# Altium integrated library Renesas Microprocessor SuperH.IntLib: 433 symbols (part 14 of 62)
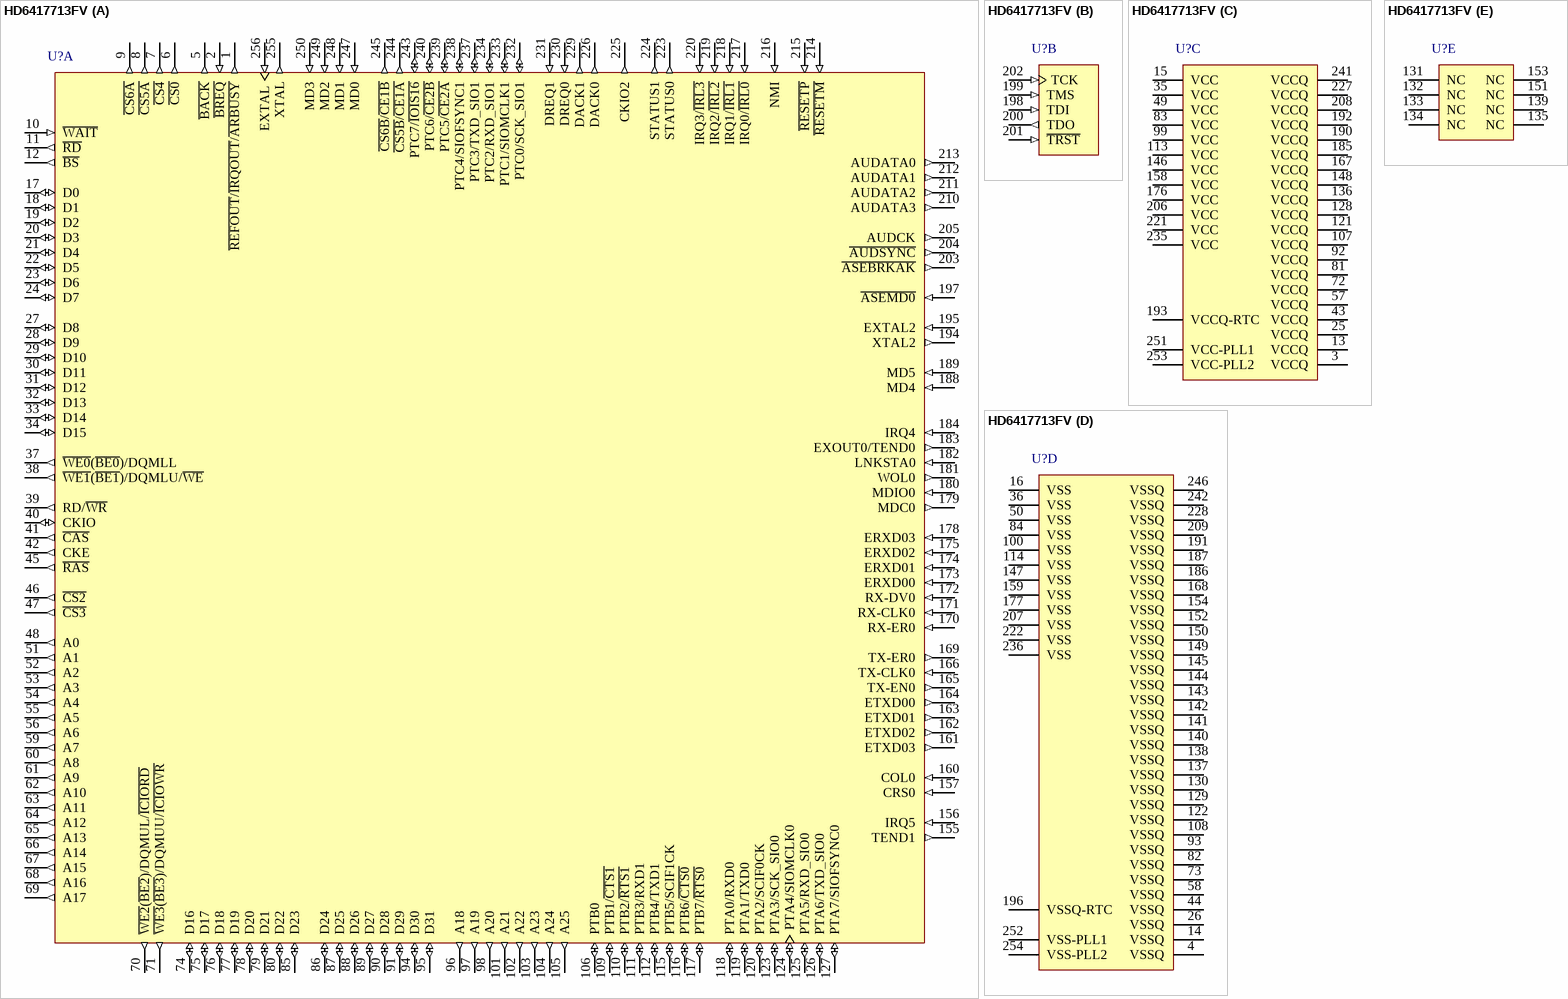
[diagram p289: symbol HD6417713FV]

## HD6417713FV
designator U?
32-Bit RISC Microcomputer, SH-Ether Series, SH3-DSP core, 200MHz, 16K RAM, 256-pin HQFP, (Pb-Free) -20 to 75°C; Published: 28-Aug-2009; DatasheetVersion: Rev.1.50, Aug-2006; PackageVersion: Sep-2005; PackageReference: PRQP0256LA-B; Publisher: Altium Limited; PackageDescription: 256-Pin Plastic Quad Flat Pack, 28 x 28 x 3.2 mm Body, 0.4 mm Pitch; Supplier 1: Digi-Key; Supplier Part Number 1: HD6417713FV-ND; Code_JEITA: P-HQFP256-28x28-0.40; ComponentLink1Description: Manufacturer Link; ComponentLink1URL: http://www.renesas.com/fmwk.jsp?cnt=sh7710_root.jsp&fp=/products/mpumcu/superh_family/shether_series/sh7710_group/; ComponentLink2Description: Datasheet; ComponentLink2URL: http://documentation.renesas.com/eng/products/mpumcu/rej09b0288_sh7713hm.pdf; ComponentLink3Description: Packaging Specification; ComponentLink3URL: http://sg.renesas.com/media/products/common_info/package/pdf/ic/code/prqp0256la_b.pdf
footprint PRQP0256LA-B_N (Shrink QFP, 256-Leads, Body 28x28mm, Pitch 0.4mm, IPC Medium Density)
footprint PRQP0256LA-B_L (Shrink QFP, 256-Leads, Body 28x28mm, Pitch 0.4mm, IPC High Density)
footprint PRQP0256LA-B_M (Shrink QFP, 256-Leads, Body 28x28mm, Pitch 0.4mm, IPC Low Density)
part A pins: 1 ~{REFOUT}/~{IRQOUT}/~{ARBUSY} (out) "Bus release request output", 2 ~{BREQ} (in) "Bus request", 5 ~{BACK} (out) "Bus acknowledge", 6 ~{CS0} (out) "Chip select 0", 7 ~{CS4} (out) "Chip select 4", 8 ~{CS5A} (out) "Chip select 5 A", 9 ~{CS6A} (out) "Chip select 6 A", 10 ~{WAIT} (in) "Hardware wait request", 11 ~{RD} (out) "Read strobe", 12 ~{BS} (out) "Bus cycle start signal", 17 D0 (io) "Data bus", 18 D1 (io) "Data bus", 19 D2 (io) "Data bus", 20 D3 (io) "Data bus", 21 D4 (io) "Data bus", 22 D5 (io) "Data bus", 23 D6 (io) "Data bus", 24 D7 (io) "Data bus", 27 D8 (io) "Data bus", 28 D9 (io) "Data bus", 29 D10 (io) "Data bus", 30 D11 (io) "Data bus", 31 D12 (io) "Data bus", 32 D13 (io) "Data bus", 33 D14 (io) "Data bus", 34 D15 (io) "Data bus", 37 ~{WE0}(~{BE0})/DQMLL (out) "D7 to D0-select signal/DQM (SDRAM)", 38 ~{WE1}(~{BE1})/DQMLU/~{WE} (out) "D15 to D8-select signal/DQM (SDRAM)/PCMCIA write cycle strobe", 39 RD/~{WR} (out) "Read/write", 40 CKIO (io) "System clock I/O", 41 ~{CAS} (out) "CAS (SDRAM)", 42 CKE (out) "CK enable (SDRAM)", 45 ~{RAS} (out) "RAS (SDRAM)", 46 ~{CS2} (out) "Chip select 2", 47 ~{CS3} (out) "Chip select 3", 48 A0 (out) "Address bus", 51 A1 (out) "Address bus", 52 A2 (out) "Address bus", 53 A3 (out) "Address bus", 54 A4 (out) "Address bus", 55 A5 (out) "Address bus", 56 A6 (out) "Address bus", 59 A7 (out) "Address bus", 60 A8 (out) "Address bus", 61 A9 (out) "Address bus", 62 A10 (out) "Address bus", 63 A11 (out) "Address bus", 64 A12 (out) "Address bus", 65 A13 (out) "Address bus", 66 A14 (out) "Address bus", 67 A15 (out) "Address bus", 68 A16 (out) "Address bus", 69 A17 (out) "Address bus", 70 ~{WE2}(~{BE2})/DQMUL/~{ICIORD} (out) "D23 to D16-select signal/DQM (SDRAM)/PCMCIA I/O read", 71 ~{WE3}(~{BE3})/DQMUU/~{ICIOWR} (out) "D31 to D24-select signal/DQM (SDRAM)/PCMCIA I/O write", 74 D16 (io) "Data bus", 75 D17 (io) "Data bus", 76 D18 (io) "Data bus", 77 D19 (io) "Data bus", 78 D20 (io) "Data bus", 79 D21 (io) "Data bus", 80 D22 (io) "Data bus", 85 D23 (io) "Data bus", 86 D24 (io) "Data bus", 87 D25 (io) "Data bus", 88 D26 (io) "Data bus", 89 D27 (io) "Data bus", 90 D28 (io) "Data bus", 91 D29 (io) "Data bus", 94 D30 (io) "Data bus", 95 D31 (io) "Data bus", 96 A18 (out) "Address bus", 97 A19 (out) "Address bus", 98 A20 (out) "Address bus", 101 A21 (out) "Address bus", 102 A22 (out) "Address bus", 103 A23 (out) "Address bus", 104 A24 (out) "Address bus", 105 A25 (out) "Address bus", 106 PTB0 (io) "I/O port B", 109 PTB1/~{CTS1} (io) "I/O port B/SCIF1 transmit clear", 110 PTB2/~{RTS1} (io) "I/O port B/SCIF1 transmit request", 111 PTB3/RXD1 (io) "I/O port B/SCIF1 receive data", 112 PTB4/TXD1 (io) "I/O port B/SCIF1 transmit data", 115 PTB5/SCIF1CK (io) "I/O port B/SCIF1 serial clock", 116 PTB6/~{CTS0} (io) "I/O port B/SCIF0 transmit clear", 117 PTB7/~{RTS0} (io) "I/O port B/SCIF0 transmit request", 118 PTA0/RXD0 (io) "I/O port A/SCIF0 receive data", 119 PTA1/TXD0 (io) "I/O port A/SCIF0 transmit data", 120 PTA2/SCIF0CK (io) "I/O port A/SCIF0 serial clock", 123 PTA3/SCK_SIO0 (io) "I/O port A/SIOF0 communication clock", 124 PTA4/SIOMCLK0 (io) "I/O port A/SIOF0 clock input", 125 PTA5/RXD_SIO0 (io) "I/O port A/SIOF0 receive data", 126 PTA6/TXD_SIO0 (io) "I/O port A/SIOF0 transmit data", 127 PTA7/SIOFSYNC0 (io) "I/O port A/SIOF0 frame sync", 155 TEND1 (out) "DMA transfer end notification 1", 156 IRQ5 (in) "External interrupt request", 157 CRS0 (in) "MAC carrier detection", 160 COL0 (in) "MAC collision detection", 161 ETXD03 (out) "MAC transmit data 3", 162 ETXD02 (out) "MAC transmit data 2", 163 ETXD01 (out) "MAC transmit data 1", 164 ETXD00 (out) "MAC transmit data 0", 165 TX-EN0 (out) "MAC transmit enable", 166 TX-CLK0 (in) "MAC transmit clock", 169 TX-ER0 (out) "MAC transmit error", 170 RX-ER0 (in) "MAC receive error", 171 RX-CLK0 (in) "MAC receive clock", 172 RX-DV0 (in) "MAC receive data valid", 173 ERXD00 (in) "MAC receive data 0", 174 ERXD01 (in) "MAC receive data 1", 175 ERXD02 (in) "MAC receive data 2", 178 ERXD03 (in) "MAC receive data 3", 179 MDC0 (out) "MAC management data clock", 180 MDIO0 (in) "MAC management data I/O", 181 WOL0 (out) "MAC Wake-On-LAN", 182 LNKSTA0 (in) "MAC link status", 183 EXOUT0/TEND0 (out) "MAC general-purpose external output/DMA transfer end notification 0", 184 IRQ4 (in) "External interrupt request", 188 MD4 (in) "Specifies area 0 bus width", 189 MD5 (in) "Endian select", 194 XTAL2 (out) "On-chip RTC crystal oscillator pin", 195 EXTAL2 (in) "On-chip RTC crystal oscillator pin", 197 ~{ASEMD0} (in) "ASE mode", 203 ~{ASEBRKAK} (out) "ASE break acknowledge", 204 ~{AUDSYNC} (out) "AUD synchronous", 205 AUDCK (out) "AUD clock", 210 AUDATA3 (out) "AUD data", 211 AUDATA2 (out) "AUD data", 212 AUDATA1 (out) "AUD data", 213 AUDATA0 (out) "AUD data", 214 ~{RESETM} (in) "Manual reset request", 215 ~{RESETP} (in) "Power-on reset request", 216 NMI (in) "Non-maskable interrupt request", 217 IRQ0/~{IRL0} (in) "External interrupt request", 218 IRQ1/~{IRL1} (in) "External interrupt request", 219 IRQ2/~{IRL2} (in) "External interrupt request", 220 IRQ3/~{IRL3} (in) "External interrupt request", 223 STATUS0 (out) "Processor status", 224 STATUS1 (out) "Processor status", 225 CKIO2 (out) "System clock output", 226 DACK0 (out) "DMA acknowledge 0", 229 DACK1 (out) "DMA acknowledge 1", 230 DREQ0 (in) "DMA request 0", 231 DREQ1 (in) "DMA request 1", 232 PTC0/SCK_SIO1 (io) "I/O port C/SIOF1 communication clock", 233 PTC1/SIOMCLK1 (io) "I/O port C/SIOF1 clock input", 234 PTC2/RXD_SIO1 (io) "I/O port C/SIOF1 receive data", 237 PTC3/TXD_SIO1 (io) "I/O port C/SIOF1 transmit data", 238 PTC4/SIOFSYNC1 (io) "I/O port C/SIOF1 frame sync", 239 PTC5/~{CE2A} (io) "I/O port C/area 5 PCMCIA card enable", 240 PTC6/~{CE2B} (io) "I/O port C/area 6 PCMCIA card enable", 243 PTC7/~{IOIS16} (io) "I/O port C/PCMCIA 16-bit I/O select", 244 ~{CS5B}/~{CE1A} (out) "Chip select 5B/area 5 PCMCIA card enable", 245 ~{CS6B}/~{CE1B} (out) "Chip select 6B/area 6 PCMCIA card enable", 247 MD0 (in) "Clock mode select", 248 MD1 (in) "Clock mode select", 249 MD2 (in) "Clock mode select", 250 MD3 (in) "Area 0 bus width", 255 XTAL (out) "Clock oscillator pin", 256 EXTAL (in) "External clock/crystal oscillator pin"
part B pins: 198 TDI (in) "Test data input", 199 TMS (in) "Test mode select", 200 TDO (out) "Test data output", 201 ~{TRST} (in) "Test reset", 202 TCK (in) "Test clock"
part C pins: 3 VCCQ (power) "I/O power supply (3.3V)", 13 VCCQ (power) "I/O power supply (3.3V)", 15 VCC (power) "Internal power supply (1.5V)", 25 VCCQ (power) "I/O power supply (3.3V)", 35 VCC (power) "Internal power supply (1.5V)", 43 VCCQ (power) "I/O power supply (3.3V)", 49 VCC (power) "Internal power supply (1.5V)", 57 VCCQ (power) "I/O power supply (3.3V)", 72 VCCQ (power) "I/O power supply (3.3V)", 81 VCCQ (power) "I/O power supply (3.3V)", 83 VCC (power) "Internal power supply (1.5V)", 92 VCCQ (power) "I/O power supply (3.3V)", 99 VCC (power) "Internal power supply (1.5V)", 107 VCCQ (power) "I/O power supply (3.3V)", 113 VCC (power) "Internal power supply (1.5V)", 121 VCCQ (power) "I/O power supply (3.3V)", 128 VCCQ (power) "I/O power supply (3.3V)", 136 VCCQ (power) "I/O power supply (3.3V)", 146 VCC (power) "Internal power supply (1.5V)", 148 VCCQ (power) "I/O power supply (3.3V)", 158 VCC (power) "Internal power supply (1.5V)", 167 VCCQ (power) "I/O power supply (3.3V)", 176 VCC (power) "Internal power supply (1.5V)", 185 VCCQ (power) "I/O power supply (3.3V)", 190 VCCQ (power) "I/O power supply (3.3V)", 192 VCCQ (power) "I/O power supply (3.3V)", 193 VCCQ-RTC (power) "RTC oscillator power supply (3.3V)", 206 VCC (power) "Internal power supply (1.5V)", 208 VCCQ (power) "I/O power supply (3.3V)", 221 VCC (power) "Internal power supply (1.5V)", 227 VCCQ (power) "I/O power supply (3.3V)", 235 VCC (power) "Internal power supply (1.5V)", 241 VCCQ (power) "I/O power supply (3.3V)", 251 VCC-PLL1 (power) "PLL1 power supply (1.5V)", 253 VCC-PLL2 (power) "PLL2 power supply (1.5V)"
part D pins: 4 VSSQ (power) "I/O power supply (0V)", 14 VSSQ (power) "I/O power supply (0V)", 16 VSS (power) "Internal power supply (0V)", 26 VSSQ (power) "I/O power supply (0V)", 36 VSS (power) "Internal power supply (0V)", 44 VSSQ (power) "I/O power supply (0V)", 50 VSS (power) "Internal power supply (0V)", 58 VSSQ (power) "I/O power supply (0V)", 73 VSSQ (power) "I/O power supply (0V)", 82 VSSQ (power) "I/O power supply (0V)", 84 VSS (power) "Internal power supply (0V)", 93 VSSQ (power) "I/O power supply (0V)", 100 VSS (power) "Internal power supply (0V)", 108 VSSQ (power) "I/O power supply (0V)", 114 VSS (power) "Internal power supply (0V)", 122 VSSQ (power) "I/O power supply (0V)", 129 VSSQ (power) "I/O power supply (0V)", 130 VSSQ (power) "I/O power supply (0V)", 137 VSSQ (power) "I/O power supply (0V)", 138 VSSQ (power) "I/O power supply (0V)", 140 VSSQ (power) "I/O power supply (0V)", 141 VSSQ (power) "I/O power supply (0V)", 142 VSSQ (power) "I/O power supply (0V)", 143 VSSQ (power) "I/O power supply (0V)", 144 VSSQ (power) "I/O power supply (0V)", 145 VSSQ (power) "I/O power supply (0V)", 147 VSS (power) "Internal power supply (0V)", 149 VSSQ (power) "I/O power supply (0V)", 150 VSSQ (power) "I/O power supply (0V)", 152 VSSQ (power) "I/O power supply (0V)", 154 VSSQ (power) "I/O power supply (0V)", 159 VSS (power) "Internal power supply (0V)", 168 VSSQ (power) "I/O power supply (0V)", 177 VSS (power) "Internal power supply (0V)", 186 VSSQ (power) "I/O power supply (0V)", 187 VSSQ (power) "I/O power supply (0V)", 191 VSSQ (power) "I/O power supply (0V)", 196 VSSQ-RTC (power) "RTC oscillator power supply (0V)", 207 VSS (power) "Internal power supply (0V)", 209 VSSQ (power) "I/O power supply (0V)", 222 VSS (power) "Internal power supply (0V)", 228 VSSQ (power) "I/O power supply (0V)", 236 VSS (power) "Internal power supply (0V)", 242 VSSQ (power) "I/O power supply (0V)", 246 VSSQ (power) "I/O power supply (0V)", 252 VSS-PLL1 (power) "PLL1 power supply (0V)", 254 VSS-PLL2 (power) "PLL2 power supply (0V)"
part E pins: 131 NC "Not Connected", 132 NC "Not Connected", 133 NC "Not Connected", 134 NC "Not Connected", 135 NC "Not Connected", 139 NC "Not Connected", 151 NC "Not Connected", 153 NC "Not Connected"

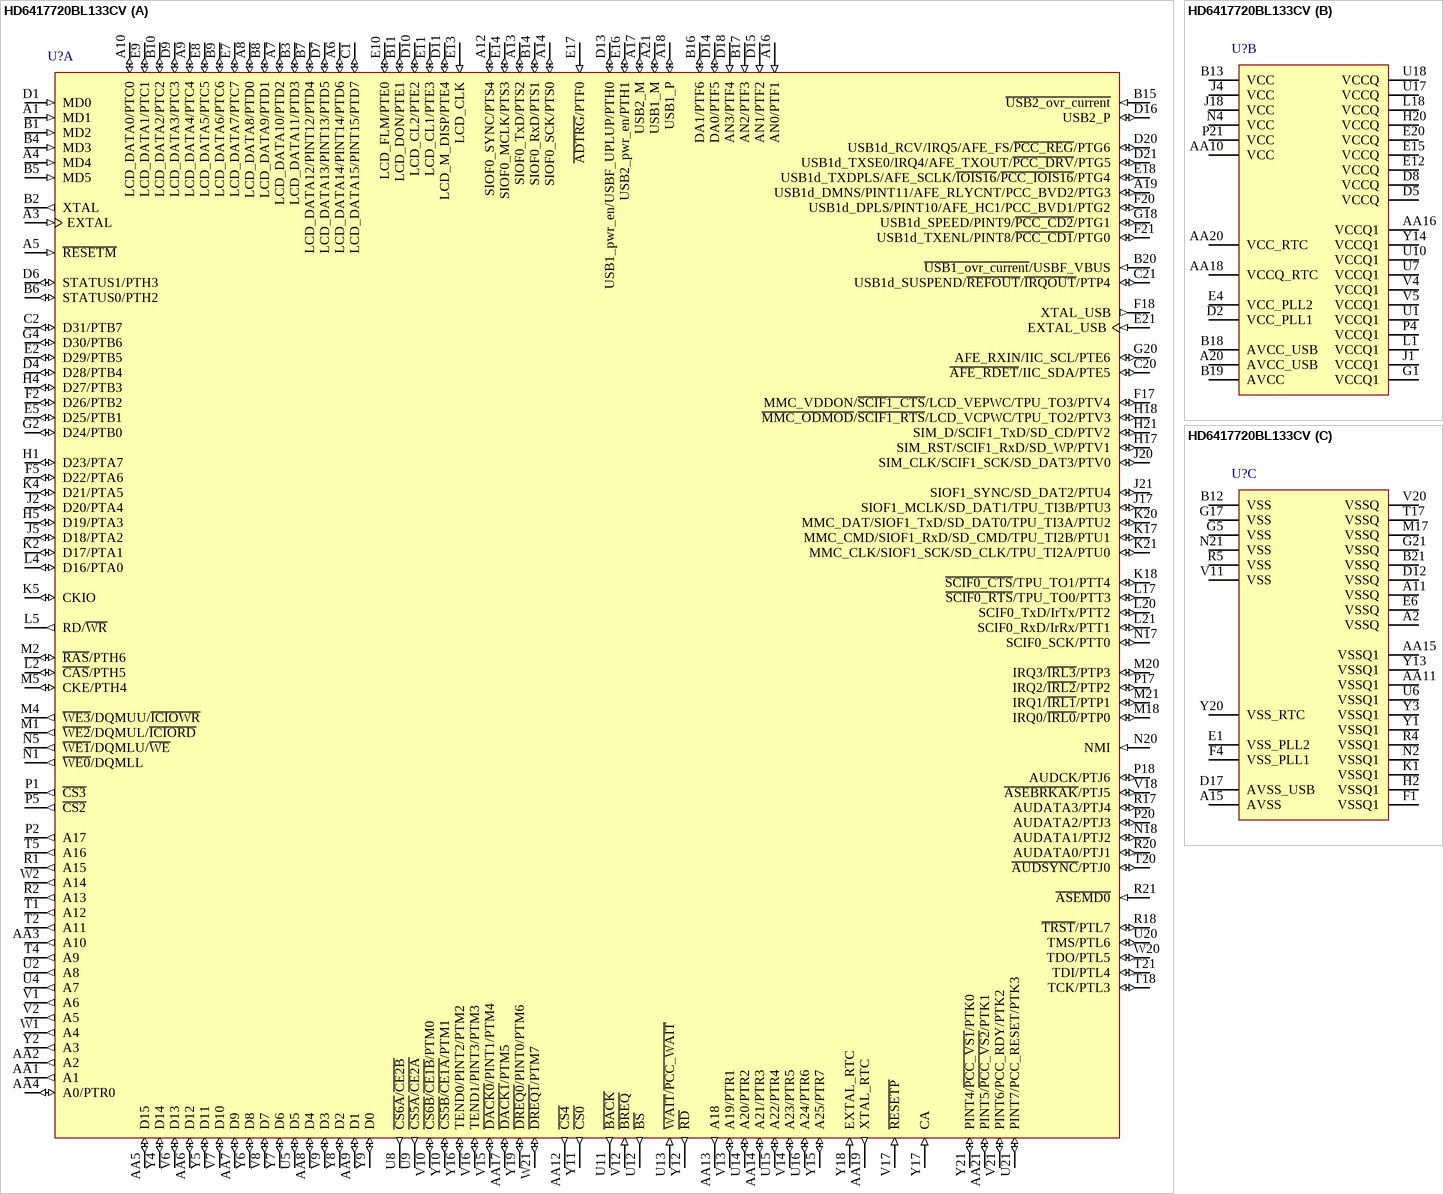
[diagram p51: symbol HD6417720BL133CV]

## HD6417720BL133CV
designator U?
32-Bit RISC Microcomputer, SH7700 Series, SH3-DSP core, 133MHz, 16K RAM, 11x11mm 256-pin CSP, -20 to 75°C; Published: 28-Aug-2009; DatasheetVersion: Rev.3.00, Jan-2008; PackageVersion: Sep-2008; PackageReference: PLBG0256KA-A; Publisher: Altium Limited; PackageDescription: 256-Ball Plastic Low Profile Fine-Pitch BGA, 11 x 11 mm Body, 0.5 mm Pitch; Supplier 1: Digi-Key; Supplier Part Number 1: HD6417720BL133CV-ND; Code_JEITA: P-LFBGA256-11x11-0.50; ComponentLink1Description: Manufacturer Link; ComponentLink1URL: http://www.renesas.com/fmwk.jsp?cnt=sh7720_root.jsp&fp=/products/mpumcu/superh_family/sh7700_series/sh7720_group/; ComponentLink2Description: Datasheet; ComponentLink2URL: http://documentation.renesas.com/eng/products/mpumcu/rej09b0033_sh7720.pdf; ComponentLink3Description: Packaging Specification; ComponentLink3URL: http://sg.renesas.com/media/products/common_info/package/pdf/ic/code/plbg0256ka_a.pdf
footprint PLBG0256KA-A (BGA, 256-Leads, Body 11x11mm, Pitch 0.5mm)
part A pins: A1 MD1 (in) "Clock mode setting", A3 EXTAL (in) "External clock", A4 MD4 (in) "Bus width setting", A5 ~{RESETM} (in) "Manual reset", A6 LCD_DATA14/PINT14/PTD6 (io) "LCD data/port interrupt/general-purpose port", A7 LCD_DATA10/PTD2 (io) "LCD data/general-purpose port", A8 LCD_DATA8/PTD0 (io) "LCD data/general-purpose port", A9 LCD_DATA4/PTC4 (io) "LCD data/general-purpose port", A10 LCD_DATA0/PTC0 (io) "LCD data/general-purpose port", A12 SIOF0_SYNC/PTS4 (io) "SIOF frame sync/general-purpose port", A13 SIOF0_TxD/PTS2 (io) "SIOF transmit data/general-purpose port", A14 SIOF0_SCK/PTS0 (io) "SIOF serial clock/general-purpose port", A16 AN0/PTF1 (in) "ADC analog input/general-purpose port", A17 USB2_M (io) "USB D-port 2", A18 USB1_P (io) "USB D+port 1", A19 USB1d_DMNS/PINT11/AFE_RLYCNT/PCC_BVD2/PTG3 (io) "D- signal input/port interrupt/AFE on-hook control/PCC buttery detection 2/general-purpose port", A21 USB1_M (io) "USB D-port 1", AA1 A1 (out) "Address bus", AA2 A2 (out) "Address bus", AA3 A10 (out) "Address bus", AA4 A0/PTR0 (io) "Address bus/general-purpose port", AA5 D15 (io) "Data bus", AA6 D12 (io) "Data bus", AA7 D9 (io) "Data bus", AA8 D4 (io) "Data bus", AA9 D1 (io) "Data bus", AA12 ~{CS4} (out) "Chip select", AA13 A18 (out) "Address bus", AA14 A21/PTR3 (io) "Address bus/general-purpose port", AA17 ~{DACK1}/PTM5 (io) "DMA transfer request reception/general-purpose port", AA19 XTAL_RTC (out) "RTC crystal", AA21 PINT5/~{PCC_VS2}/PTK1 (io) "Port interrupt/PCC voltage detection 2/general-purpose port", B1 MD2 (in) "Clock mode setting", B2 XTAL (out) "Crystal", B3 LCD_DATA11/PTD3 (io) "LCD data/general-purpose port", B4 MD3 (in) "Bus width setting", B5 MD5 (in) "Endian setting", B6 STATUS0/PTH2 (io) "Status output/general-purpose port", B7 LCD_DATA12/PINT12/PTD4 (io) "LCD data/port interrupt/general-purpose port", B8 LCD_DATA9/PTD1 (io) "LCD data/general-purpose port", B9 LCD_DATA6/PTC6 (io) "LCD data/general-purpose port", B10 LCD_DATA2/PTC2 (io) "LCD data/general-purpose port", B11 LCD_DON/PTE1 (io) "LCD display on signal/general-purpose port", B14 SIOF0_RxD/PTS1 (io) "SIOF receive data/general-purpose port", B15 ~{USB2_ovr_current} (in) "USB2 port overcurrent", B16 DA1/PTF6 (io) "DAC analog output/general-purpose port", B17 AN2/PTF3 (in) "ADC analog input/general-purpose port", B20 ~{USB1_ovr_current}/USBF_VBUS (in) "USB1 overcurrent/monitor", C1 LCD_DATA15/PINT15/PTD7 (io) "LCD data/port interrupt/general-purpose port", C2 D31/PTB7 (io) "Data bus/general-purpose port", C20 ~{AFE_RDET}/IIC_SDA/PTE5 (io) "AFE ringing/IIC data I/O /general-purpose port", C21 USB1d_SUSPEND/~{REFOUT}/~{IRQOUT}/PTP4 (io) "Suspend state/bus request (refresh)/bus request (interrupt)/general-purpose port", D1 MD0 (in) "Clock mode setting", D4 D28/PTB4 (io) "Data bus/general-purpose port", D6 STATUS1/PTH3 (io) "Status output/general-purpose port", D7 LCD_DATA13/PINT13/PTD5 (io) "LCD data/port interrupt/general-purpose port", D9 LCD_DATA3/PTC3 (io) "LCD data/general-purpose port", D10 LCD_CL2/PTE2 (io) "LCD shift clock 2/general-purpose port", D11 LCD_M_DISP/PTE4 (io) "LCD current-alternating signal/general-purpose port", D13 USB1_pwr_en/USBF_UPLUP/PTH0 (io) "USB1 power-enable/pull-up control/general-purpose port", D14 DA0/PTF5 (io) "DAC analog output/general-purpose port", D15 AN1/PTF2 (in) "ADC analog input/general-purpose port", D16 USB2_P (io) "USB D+port 2", D18 AN3/PTF4 (in) "ADC analog input/general-purpose port", D20 USB1d_RCV/IRQ5/AFE_FS/~{PCC_REG}/PTG6 (io) "Receive data/interrupt/area indicate signal/AFE frame synchronization/PCC space indication/general-purpose port", D21 USB1d_TXSE0/IRQ4/AFE_TXOUT/~{PCC_DRV}/PTG5 (io) "SE0 state/interrupt/AFE serial transmission/PCC buffer control/general-purpose port", E2 D29/PTB5 (io) "Data bus/general-purpose port", E5 D25/PTB1 (io) "Data bus/general-purpose port", E7 LCD_DATA7/PTC7 (io) "LCD data/general-purpose port", E8 LCD_DATA5/PTC5 (io) "LCD data/general-purpose port", E9 LCD_DATA1/PTC1 (io) "LCD data/general-purpose port", E10 LCD_FLM/PTE0 (io) "LCD line marker/general-purpose port", E11 LCD_CL1/PTE3 (io) "LCD shift clock 1/general-purpose port", E13 LCD_CLK (in) "LCD clock source", E14 SIOF0_MCLK/PTS3 (io) "SIOF master clock/general-purpose port", E16 USB2_pwr_en/PTH1 (io) "USB2 power-enable/general-purpose port", E17 ~{ADTRG}/PTF0 (in) "ADC external trigger/general-purpose port", E18 USB1d_TXDPLS/AFE_SCLK/~{IOIS16}/~{PCC_IOIS16}/PTG4 (io) "D+transmit output/AFE shift clock/16-bit IO/PCCI 6-bit IO/general-purpose port", E21 EXTAL_USB (in) "USB external clock", F2 D26/PTB2 (io) "Data bus/general-purpose port", F5 D22/PTA6 (io) "Data bus/general-purpose port", F17 MMC_VDDON/~{SCIF1_CTS}/LCD_VEPWC/TPU_TO3/PTV4 (io) "MMC card power supply control/SCIF transmit enable/LCD power supply control/TPU compare-match output/general-purpose port", F18 XTAL_USB (out) "USB crystal", F20 USB1d_DPLS/PINT10/AFE_HC1/PCC_BVD1/PTG2 (io) "D+ transmit input/port interrupt/AFE hardware control/PCC battery detection 1/general-purpose port", F21 USB1d_TXENL/PINT8/~{PCC_CD1}/PTG0 (io) "Driver output enable/port interrupt/PCC card detection 1/general-purpose port", G2 D24/PTB0 (io) "Data bus/general-purpose port", G4 D30/PTB6 (io) "Data bus/general-purpose port", G18 USB1d_SPEED/PINT9/~{PCC_CD2}/PTG1 (io) "Speed control/port interrupt/PCC card detection 2/general-purpose port", G20 AFE_RXIN/IIC_SCL/PTE6 (io) "AFE serial receive/IIC clock/general-purpose port", H1 D23/PTA7 (io) "Data bus/general-purpose port", H4 D27/PTB3 (io) "Data bus/general-purpose port", H5 D19/PTA3 (io) "Data bus/general-purpose port", H17 SIM_RST/SCIF1_RxD/SD_WP/PTV1 (io) "SIM reset/SCIF receive data/SD write protect/general-purpose port", H18 ~{MMC_ODMOD}/~{SCIF1_RTS}/LCD_VCPWC/TPU_TO2/PTV3 (io) "MMC open drain control/SCIF transmit request/LCD power supply control/TPU compare-match output/general-purpose port", H21 SIM_D/SCIF1_TxD/SD_CD/PTV2 (io) "SIM data/SCIF transmit data/SD card detection/general-purpose port", J2 D20/PTA4 (io) "Data bus/general-purpose port", J5 D18/PTA2 (io) "Data bus/general-purpose port", J17 SIOF1_MCLK/SD_DAT1/TPU_TI3B/PTU3 (io) "SIOF master clock/SD data/TPU clock input/general-purpose port", J20 SIM_CLK/SCIF1_SCK/SD_DAT3/PTV0 (io) "SIM clock/SCIF serial clock/SD data/general-purpose port", J21 SIOF1_SYNC/SD_DAT2/PTU4 (io) "SIOF frame sync/SD data/general-purpose port", K2 D17/PTA1 (io) "Data bus/general-purpose port", K4 D21/PTA5 (io) "Data bus/general-purpose port", K5 CKIO (io) "System clock", K17 MMC_CMD/SIOF1_RxD/SD_CMD/TPU_TI2B/PTU1 (io) "MMC command/SIOF receive data/SD command/TPU clock input/general-purpose port", K18 ~{SCIF0_CTS}/TPU_TO1/PTT4 (io) "SCIF transmit enable/TPU compare-match output/general-purpose port", K20 MMC_DAT/SIOF1_TxD/SD_DAT0/TPU_TI3A/PTU2 (io) "MMC data/SIOF transmit data/SD data/TPU clock input/general-purpose port", K21 MMC_CLK/SIOF1_SCK/SD_CLK/TPU_TI2A/PTU0 (io) "MMC clock/SIOF serial clock/SD clock/TPU clock input/general-purpose port", L2 ~{CAS}/PTH5 (io) "Column address/general-purpose port", L4 D16/PTA0 (io) "Data bus/general-purpose port", L5 RD/~{WR} (out) "Read/write signal", L17 ~{SCIF0_RTS}/TPU_TO0/PTT3 (io) "SCIF transmit request/TPU compare-match output/general-purpose port", L20 SCIF0_TxD/IrTx/PTT2 (io) "SCIF transmit data/IrDA transmit data/general-purpose port", L21 SCIF0_RxD/IrRx/PTT1 (io) "SCIF receive data/IrDA receive data/general-purpose port", M1 ~{WE2}/DQMUL/~{ICIORD} (out) "Second-highest-byte write/DQ mask UL/IO read", M2 ~{RAS}/PTH6 (io) "Row address/general-purpose port O/IO", M4 ~{WE3}/DQMUU/~{ICIOWR} (out) "Highest-byte write/DQ mask UU/IO write", M5 CKE/PTH4 (io) "Clock enable/general-purpose port O/IO", M18 IRQ0/~{IRL0}/PTP0 (io) "Interrupt/interrupt/general-purpose port", M20 IRQ3/~{IRL3}/PTP3 (io) "Interrupt/interrupt/general-purpose port", M21 IRQ1/~{IRL1}/PTP1 (io) "Interrupt/interrupt/general-purpose port", N1 ~{WE0}/DQMLL (out) "Lowest-byte write/DQ mask LL", N5 ~{WE1}/DQMLU/~{WE} (out) "Second-lowest-byte write/DQ mask LU/write enable", N17 SCIF0_SCK/PTT0 (io) "SCIF serial clock/general-purpose port", N18 AUDATA1/PTJ2 (io) "AUD data/general-purpose port", N20 NMI (in) "NMI interrupt", P1 ~{CS3} (out) "Chip select", P2 A17 (out) "Address bus", P5 ~{CS2} (out) "Chip select", P17 IRQ2/~{IRL2}/PTP2 (io) "Interrupt/interrupt/general-purpose port", P18 AUDCK/PTJ6 (io) "AUD clock/general-purpose port", P20 AUDATA2/PTJ3 (io) "AUD data/general-purpose port", R1 A15 (out) "Address bus", R2 A13 (out) "Address bus", R17 AUDATA3/PTJ4 (io) "AUD data/general-purpose port", R18 ~{TRST}/PTL7 (io) "Test reset/general-purpose port", R20 AUDATA0/PTJ1 (io) "AUD data/general-purpose port", R21 ~{ASEMD0} (in) "ASE mode", T1 A12 (out) "Address bus", T2 A11 (out) "Address bus", T4 A9 (out) "Address bus", T5 A16 (out) "Address bus", T18 TCK/PTL3 (io) "Test clock/general-purpose port", T20 ~{AUDSYNC}/PTJ0 (io) "AUD synchronous signal/general-purpose port", T21 TDI/PTL4 (io) "Test data input/general-purpose port", U2 A8 (out) "Address bus", U4 A7 (out) "Address bus", U5 D5 (io) "Data bus", U8 ~{CS6A}/~{CE2B} (out) "Chip select/chip select", U9 ~{CS5A}/~{CE2A} (out) "Chip select/chip select", U11 ~{BACK} (out) "Bus request acknowledge", U12 ~{BS} (out) "Bus start", U13 ~{WAIT}/~{PCC_WAIT} (in) "Wait/PCC wait", U14 A20/PTR2 (io) "Address bus/general-purpose port", U15 A22/PTR4 (io) "Address bus/general-purpose port", U16 A24/PTR6 (io) "Address bus/general-purpose port", U20 TMS/PTL6 (io) "Test mode select/general-purpose port", U21 PINT7/PCC_RESET/PTK3 (io) "Port interrupt/PCC reset/general-purpose port", V1 A6 (out) "Address bus", V2 A5 (out) "Address bus", V6 D13 (io) "Data bus", V7 D10 (io) "Data bus", V8 D7 (io) "Data bus", V9 D3 (io) "Data bus", V10 ~{CS6B}/~{CE1B}/PTM0 (io) "Chip select/chip select/general-purpose port", V12 ~{BREQ} (in) "Bus request", V13 A19/PTR1 (io) "Address bus/general-purpose port", V14 A23/PTR5 (io) "Address bus/general-purpose port", V15 ~{DACK0}/PINT1/PTM4 (io) "DMA transfer request reception/port interrupt/general-purpose port", V16 TEND1/PINT3/PTM3 (io) "DMA transfer end/port interrupt/general-purpose port", V17 ~{RESETP} (in) "Power-on reset", V18 ~{ASEBRKAK}/PTJ5 (io) "ASE break mode acknowledge/general-purpose port", V21 PINT6/PCC_RDY/PTK2 (io) "Port interrupt/PCC ready/general-purpose port", W1 A4 (out) "Address bus", W2 A14 (out) "Address bus", W20 TDO/PTL5 (io) "Test data output/general-purpose port", W21 ~{DREQ1}/PTM7 (io) "DMA transfer request/general-purpose port", Y2 A3 (out) "Address bus", Y4 D14 (io) "Data bus", Y5 D11 (io) "Data bus", Y6 D8 (io) "Data bus", Y7 D6 (io) "Data bus", Y8 D2 (io) "Data bus", Y9 D0 (io) "Data bus", Y10 ~{CS5B}/~{CE1A}/PTM1 (io) "Chip select/chip select/general-purpose port", Y11 ~{CS0} (out) "Chip select", Y12 ~{RD} (out) "Read strobe", Y15 A25/PTR7 (io) "Address bus/general-purpose port", Y16 TEND0/PINT2/PTM2 (io) "DMA transfer end/port interrupt/general-purpose port", Y17 CA (in) "Chip active", Y18 EXTAL_RTC (in) "RTC external clock", Y19 ~{DREQ0}/PINT0/PTM6 (io) "DMA transfer request/port interrupt/general-purpose port", Y21 PINT4/~{PCC_VS1}/PTK0 (io) "Port interrupt/PCC voltage detection 1/general-purpose port"
part B pins: A20 AVCC_USB (power) "USB power supply (3.3V)", AA10 VCC (power) "Internal power supply (1.5V)", AA16 VCCQ1 (power) "I/O power supply (1.8/3.3V)", AA18 VCCQ_RTC (power) "RTC power supply (3.3V)", AA20 VCC_RTC (power) "RTC power supply (1.5V)", B13 VCC (power) "Internal power supply (1.5V)", B18 AVCC_USB (power) "USB power supply (3.3V)", B19 AVCC (power) "Analog power supply (3.3V)", D2 VCC_PLL1 (power) "PLL1 power supply (1.5V)", D5 VCCQ (power) "I/O power supply (3.3V)", D8 VCCQ (power) "I/O power supply (3.3V)", E4 VCC_PLL2 (power) "PLL2 power supply (1.5V)", E12 VCCQ (power) "I/O power supply (3.3V)", E15 VCCQ (power) "I/O power supply (3.3V)", E20 VCCQ (power) "I/O power supply (3.3V)", G1 VCCQ1 (power) "I/O power supply (1.8/3.3V)", H20 VCCQ (power) "I/O power supply (3.3V)", J1 VCCQ1 (power) "I/O power supply (1.8/3.3V)", J4 VCC (power) "Internal power supply (1.5V)", J18 VCC (power) "Power-supply (1.5V)", L1 VCCQ1 (power) "I/O power supply (1.8/3.3V)", L18 VCCQ (power) "I/O power supply (3.3V)", N4 VCC (power) "Power-supply (1.5V)", P4 VCCQ1 (power) "I/O power supply (1.8/3.3V)", P21 VCC (power) "Internal power supply (1.5V)", U1 VCCQ1 (power) "I/O power supply (1.8/3.3V)", U7 VCCQ1 (power) "I/O power supply (1.8/3.3V)", U10 VCCQ1 (power) "I/O power supply (1.8/3.3V)", U17 VCCQ (power) "I/O power supply (3.3V)", U18 VCCQ (power) "I/O power supply (3.3V)", V4 VCCQ1 (power) "I/O power supply (1.8/3.3V)", V5 VCCQ1 (power) "I/O power supply (1.8/3.3V)", Y14 VCCQ1 (power) "I/O power supply (1.8/3.3V)"
part C pins: A2 VSSQ (power) "I/O power supply (0V)", A11 VSSQ (power) "I/O power supply (0V)", A15 AVSS (power) "Analog power supply (0V)", AA11 VSSQ1 (power) "I/O power supply (0V)", AA15 VSSQ1 (power) "I/O power supply (0V)", B12 VSS (power) "Internal power supply (0V)", B21 VSSQ (power) "I/O power supply (0V)", D12 VSSQ (power) "I/O power supply (0V)", D17 AVSS_USB (power) "USB power supply (0V)", E1 VSS_PLL2 (power) "PLL2 power supply (0V)", E6 VSSQ (power) "I/O power supply (0V)", F1 VSSQ1 (power) "I/O power supply (0V)", F4 VSS_PLL1 (power) "PLL1 power supply (0V)", G5 VSS (power) "Power-supply (0V)", G17 VSS (power) "Internal power supply (0V)", G21 VSSQ (power) "I/O power supply (0V)", H2 VSSQ1 (power) "I/O power supply (0V)", K1 VSSQ1 (power) "I/O power supply (0V)", M17 VSSQ (power) "I/O power supply (0V)", N2 VSSQ1 (power) "I/O power supply (0V)", N21 VSS (power) "Power-supply (0V)", R4 VSSQ1 (power) "I/O power supply (0V)", R5 VSS (power) "Internal power supply (0V)", T17 VSSQ (power) "I/O power supply (0V)", U6 VSSQ1 (power) "I/O power supply (0V)", V11 VSS (power) "Internal power supply (0V)", V20 VSSQ (power) "I/O power supply (0V)", Y1 VSSQ1 (power) "I/O power supply (0V)", Y3 VSSQ1 (power) "I/O power supply (0V)", Y13 VSSQ1 (power) "I/O power supply (0V)", Y20 VSS_RTC (power) "RTC power supply (0V)"

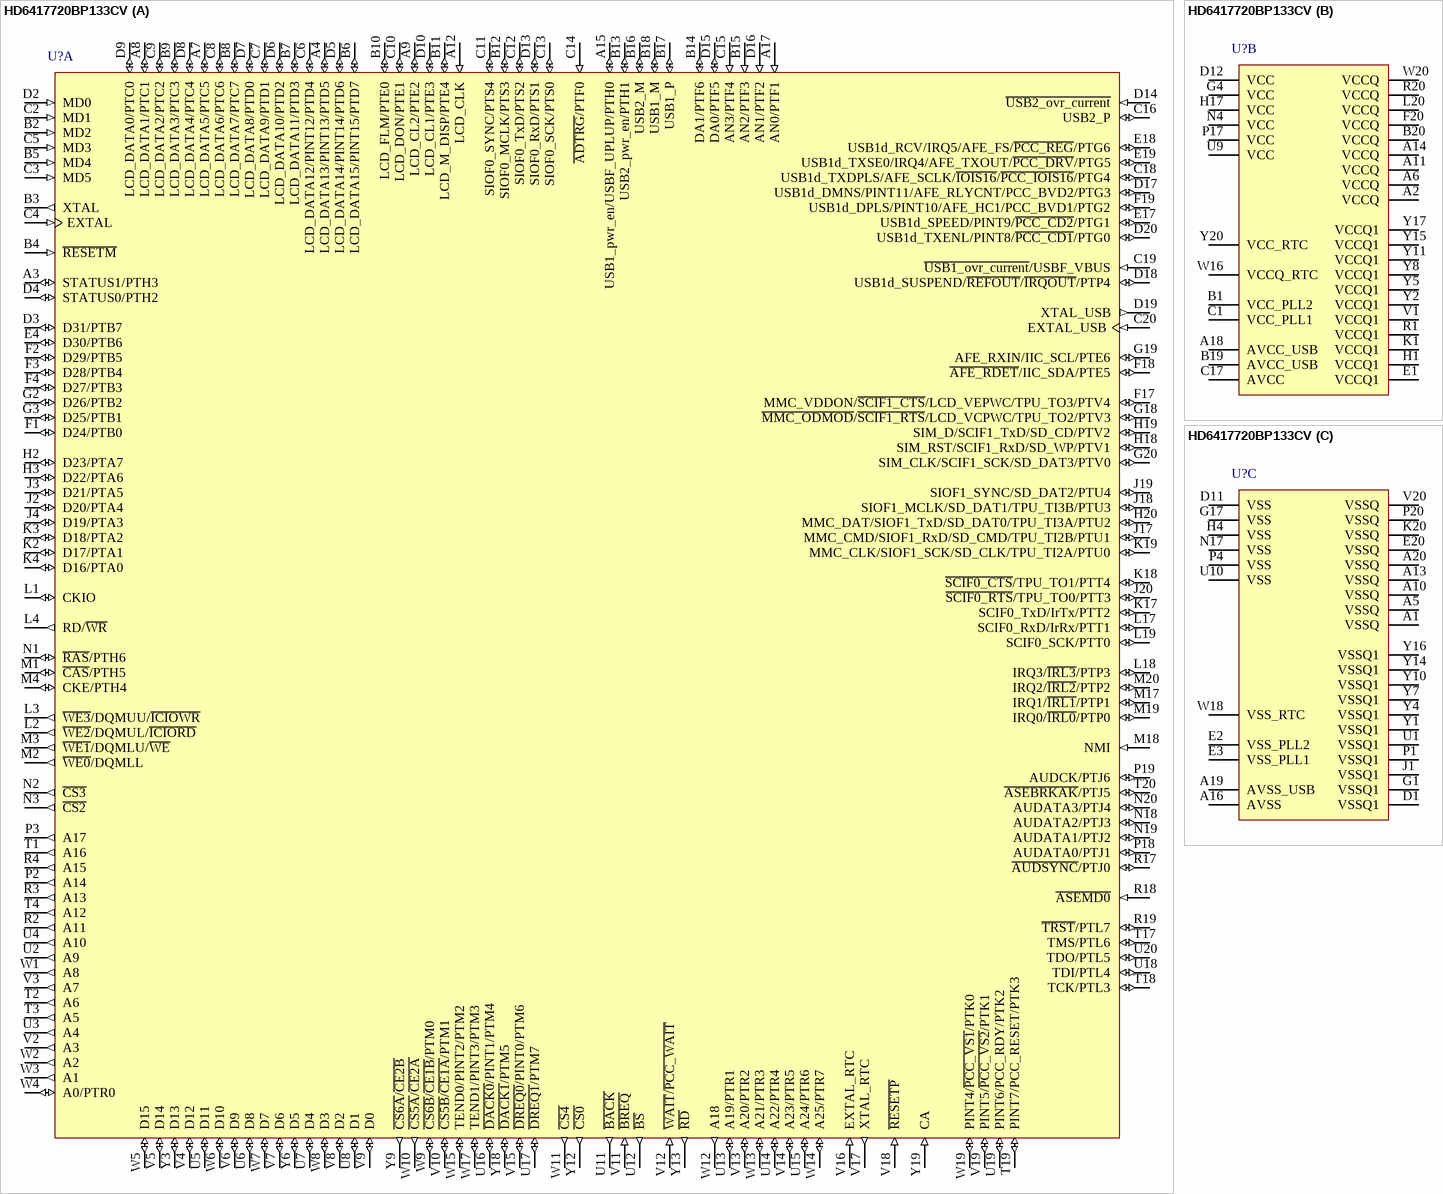
[diagram p52: symbol HD6417720BP133CV]

## HD6417720BP133CV
designator U?
32-Bit RISC Microcomputer, SH7700 Series, SH3-DSP core, 133MHz, 16K RAM, 17x17mm 256-pin CSP, -20 to 75°C; Published: 28-Aug-2009; DatasheetVersion: Rev.3.00, Jan-2008; PackageVersion: Sep-2008; PackageReference: PLBG0256GA-A; Publisher: Altium Limited; PackageDescription: 256-Ball Plastic Low Profile Fine-Pitch BGA, 17 x 17 mm Body, 0.8 mm Pitch; Supplier 1: Digi-Key; Supplier Part Number 1: HD6417720BP133CV-ND; Code_JEITA: P-LFBGA256-17x17-0.80; ComponentLink1Description: Manufacturer Link; ComponentLink1URL: http://www.renesas.com/fmwk.jsp?cnt=sh7720_root.jsp&fp=/products/mpumcu/superh_family/sh7700_series/sh7720_group/; ComponentLink2Description: Datasheet; ComponentLink2URL: http://documentation.renesas.com/eng/products/mpumcu/rej09b0033_sh7720.pdf; ComponentLink3Description: Packaging Specification; ComponentLink3URL: http://sg.renesas.com/media/products/common_info/package/pdf/ic/code/plbg0256ga_a.pdf
footprint PLBG0256GA-A (BGA, 256-Leads, Body 17x17mm, Pitch 0.8mm)
part A pins: A3 STATUS1/PTH3 (io) "Status output/general-purpose port", A4 LCD_DATA13/PINT13/PTD5 (io) "LCD data/port interrupt/general-purpose port", A7 LCD_DATA5/PTC5 (io) "LCD data/general-purpose port", A8 LCD_DATA1/PTC1 (io) "LCD data/general-purpose port", A9 LCD_CL2/PTE2 (io) "LCD shift clock 2/general-purpose port", A12 LCD_CLK (in) "LCD clock source", A15 USB1_pwr_en/USBF_UPLUP/PTH0 (io) "USB1 power-enable/pull-up control/general-purpose port", A17 AN0/PTF1 (in) "ADC analog input/general-purpose port", B2 MD2 (in) "Clock mode setting", B3 XTAL (out) "Crystal", B4 ~{RESETM} (in) "Manual reset", B5 MD4 (in) "Bus width setting", B6 LCD_DATA15/PINT15/PTD7 (io) "LCD data/port interrupt/general-purpose port", B7 LCD_DATA11/PTD3 (io) "LCD data/general-purpose port", B8 LCD_DATA7/PTC7 (io) "LCD data/general-purpose port", B9 LCD_DATA3/PTC3 (io) "LCD data/general-purpose port", B10 LCD_FLM/PTE0 (io) "LCD line marker/general-purpose port", B11 LCD_M_DISP/PTE4 (io) "LCD current-alternating signal/general-purpose port", B12 SIOF0_MCLK/PTS3 (io) "SIOF master clock/general-purpose port", B13 USB2_pwr_en/PTH1 (io) "USB2 power-enable/general-purpose port", B14 DA1/PTF6 (io) "DAC analog output/general-purpose port", B15 AN2/PTF3 (in) "ADC analog input/general-purpose port", B16 USB2_M (io) "USB D-port 2", B17 USB1_P (io) "USB D+port 1", B18 USB1_M (io) "USB D-port 1", C2 MD1 (in) "Clock mode setting", C3 MD5 (in) "Endian setting", C4 EXTAL (in) "External clock", C5 MD3 (in) "Bus width setting", C6 LCD_DATA12/PINT12/PTD4 (io) "LCD data/port interrupt/general-purpose port", C7 LCD_DATA9/PTD1 (io) "LCD data/general-purpose port", C8 LCD_DATA6/PTC6 (io) "LCD data/general-purpose port", C9 LCD_DATA2/PTC2 (io) "LCD data/general-purpose port", C10 LCD_DON/PTE1 (io) "LCD display on signal/general-purpose port", C11 SIOF0_SYNC/PTS4 (io) "SIOF frame sync/general-purpose port", C12 SIOF0_TxD/PTS2 (io) "SIOF transmit data/general-purpose port", C13 SIOF0_SCK/PTS0 (io) "SIOF serial clock/general-purpose port", C14 ~{ADTRG}/PTF0 (in) "ADC external trigger/general-purpose port", C15 AN3/PTF4 (in) "ADC analog input/general-purpose port", C16 USB2_P (io) "USB D+port 2", C18 USB1d_TXDPLS/AFE_SCLK/~{IOIS16}/~{PCC_IOIS16}/PTG4 (io) "D+transmit output/AFE shift clock/16-bit IO/PCCI 6-bit IO/general-purpose port", C19 ~{USB1_ovr_current}/USBF_VBUS (in) "USB1 overcurrent/monitor", C20 EXTAL_USB (in) "USB external clock", D2 MD0 (in) "Clock mode setting", D3 D31/PTB7 (io) "Data bus/general-purpose port", D4 STATUS0/PTH2 (io) "Status output/general-purpose port", D5 LCD_DATA14/PINT14/PTD6 (io) "LCD data/port interrupt/general-purpose port", D6 LCD_DATA10/PTD2 (io) "LCD data/general-purpose port", D7 LCD_DATA8/PTD0 (io) "LCD data/general-purpose port", D8 LCD_DATA4/PTC4 (io) "LCD data/general-purpose port", D9 LCD_DATA0/PTC0 (io) "LCD data/general-purpose port", D10 LCD_CL1/PTE3 (io) "LCD shift clock 1/general-purpose port", D13 SIOF0_RxD/PTS1 (io) "SIOF receive data/general-purpose port", D14 ~{USB2_ovr_current} (in) "USB2 port overcurrent", D15 DA0/PTF5 (io) "DAC analog output/general-purpose port", D16 AN1/PTF2 (in) "ADC analog input/general-purpose port", D17 USB1d_DMNS/PINT11/AFE_RLYCNT/PCC_BVD2/PTG3 (io) "D- signal input/port interrupt/AFE on-hook control/PCC buttery detection 2/general-purpose port", D18 USB1d_SUSPEND/~{REFOUT}/~{IRQOUT}/PTP4 (io) "Suspend state/bus request (refresh)/bus request (interrupt)/general-purpose port", D19 XTAL_USB (out) "USB crystal", D20 USB1d_TXENL/PINT8/~{PCC_CD1}/PTG0 (io) "Driver output enable/port interrupt/PCC card detection 1/general-purpose port", E4 D30/PTB6 (io) "Data bus/general-purpose port", E17 USB1d_SPEED/PINT9/~{PCC_CD2}/PTG1 (io) "Speed control/port interrupt/PCC card detection 2/general-purpose port", E18 USB1d_RCV/IRQ5/AFE_FS/~{PCC_REG}/PTG6 (io) "Receive data/interrupt/area indicate signal/AFE frame synchronization/PCC space indication/general-purpose port", E19 USB1d_TXSE0/IRQ4/AFE_TXOUT/~{PCC_DRV}/PTG5 (io) "SE0 state/interrupt/AFE serial transmission/PCC buffer control/general-purpose port", F1 D24/PTB0 (io) "Data bus/general-purpose port", F2 D29/PTB5 (io) "Data bus/general-purpose port", F3 D28/PTB4 (io) "Data bus/general-purpose port", F4 D27/PTB3 (io) "Data bus/general-purpose port", F17 MMC_VDDON/~{SCIF1_CTS}/LCD_VEPWC/TPU_TO3/PTV4 (io) "MMC card power supply control/SCIF transmit enable/LCD power supply control/TPU compare-match output/general-purpose port", F18 ~{AFE_RDET}/IIC_SDA/PTE5 (io) "AFE ringing/IIC data I/O /general-purpose port", F19 USB1d_DPLS/PINT10/AFE_HC1/PCC_BVD1/PTG2 (io) "D+ transmit input/port interrupt/AFE hardware control/PCC battery detection 1/general-purpose port", G2 D26/PTB2 (io) "Data bus/general-purpose port", G3 D25/PTB1 (io) "Data bus/general-purpose port", G18 ~{MMC_ODMOD}/~{SCIF1_RTS}/LCD_VCPWC/TPU_TO2/PTV3 (io) "MMC open drain control/SCIF transmit request/LCD power supply control/TPU compare-match output/general-purpose port", G19 AFE_RXIN/IIC_SCL/PTE6 (io) "AFE serial receive/IIC clock/general-purpose port", G20 SIM_CLK/SCIF1_SCK/SD_DAT3/PTV0 (io) "SIM clock/SCIF serial clock/SD data/general-purpose port", H2 D23/PTA7 (io) "Data bus/general-purpose port", H3 D22/PTA6 (io) "Data bus/general-purpose port", H18 SIM_RST/SCIF1_RxD/SD_WP/PTV1 (io) "SIM reset/SCIF receive data/SD write protect/general-purpose port", H19 SIM_D/SCIF1_TxD/SD_CD/PTV2 (io) "SIM data/SCIF transmit data/SD card detection/general-purpose port", H20 MMC_DAT/SIOF1_TxD/SD_DAT0/TPU_TI3A/PTU2 (io) "MMC data/SIOF transmit data/SD data/TPU clock input/general-purpose port", J2 D20/PTA4 (io) "Data bus/general-purpose port", J3 D21/PTA5 (io) "Data bus/general-purpose port", J4 D19/PTA3 (io) "Data bus/general-purpose port", J17 MMC_CMD/SIOF1_RxD/SD_CMD/TPU_TI2B/PTU1 (io) "MMC command/SIOF receive data/SD command/TPU clock input/general-purpose port", J18 SIOF1_MCLK/SD_DAT1/TPU_TI3B/PTU3 (io) "SIOF master clock/SD data/TPU clock input/general-purpose port", J19 SIOF1_SYNC/SD_DAT2/PTU4 (io) "SIOF frame sync/SD data/general-purpose port", J20 ~{SCIF0_RTS}/TPU_TO0/PTT3 (io) "SCIF transmit request/TPU compare-match output/general-purpose port", K2 D17/PTA1 (io) "Data bus/general-purpose port", K3 D18/PTA2 (io) "Data bus/general-purpose port", K4 D16/PTA0 (io) "Data bus/general-purpose port", K17 SCIF0_TxD/IrTx/PTT2 (io) "SCIF transmit data/IrDA transmit data/general-purpose port", K18 ~{SCIF0_CTS}/TPU_TO1/PTT4 (io) "SCIF transmit enable/TPU compare-match output/general-purpose port", K19 MMC_CLK/SIOF1_SCK/SD_CLK/TPU_TI2A/PTU0 (io) "MMC clock/SIOF serial clock/SD clock/TPU clock input/general-purpose port", L1 CKIO (io) "System clock", L2 ~{WE2}/DQMUL/~{ICIORD} (out) "Second-highest-byte write/DQ mask UL/IO read", L3 ~{WE3}/DQMUU/~{ICIOWR} (out) "Highest-byte write/DQ mask UU/IO write", L4 RD/~{WR} (out) "Read/write signal", L17 SCIF0_RxD/IrRx/PTT1 (io) "SCIF receive data/IrDA receive data/general-purpose port", L18 IRQ3/~{IRL3}/PTP3 (io) "Interrupt/interrupt/general-purpose port", L19 SCIF0_SCK/PTT0 (io) "SCIF serial clock/general-purpose port", M1 ~{CAS}/PTH5 (io) "Column address/general-purpose port", M2 ~{WE0}/DQMLL (out) "Lowest-byte write/DQ mask LL", M3 ~{WE1}/DQMLU/~{WE} (out) "Second-lowest-byte write/DQ mask LU/write enable", M4 CKE/PTH4 (io) "Clock enable/general-purpose port O/IO", M17 IRQ1/~{IRL1}/PTP1 (io) "Interrupt/interrupt/general-purpose port", M18 NMI (in) "NMI interrupt", M19 IRQ0/~{IRL0}/PTP0 (io) "Interrupt/interrupt/general-purpose port", M20 IRQ2/~{IRL2}/PTP2 (io) "Interrupt/interrupt/general-purpose port", N1 ~{RAS}/PTH6 (io) "Row address/general-purpose port O/IO", N2 ~{CS3} (out) "Chip select", N3 ~{CS2} (out) "Chip select", N18 AUDATA2/PTJ3 (io) "AUD data/general-purpose port", N19 AUDATA1/PTJ2 (io) "AUD data/general-purpose port", N20 AUDATA3/PTJ4 (io) "AUD data/general-purpose port", P2 A14 (out) "Address bus", P3 A17 (out) "Address bus", P18 AUDATA0/PTJ1 (io) "AUD data/general-purpose port", P19 AUDCK/PTJ6 (io) "AUD clock/general-purpose port", R2 A11 (out) "Address bus", R3 A13 (out) "Address bus", R4 A15 (out) "Address bus", R17 ~{AUDSYNC}/PTJ0 (io) "AUD synchronous signal/general-purpose port", R18 ~{ASEMD0} (in) "ASE mode", R19 ~{TRST}/PTL7 (io) "Test reset/general-purpose port", T1 A16 (out) "Address bus", T2 A6 (out) "Address bus", T3 A5 (out) "Address bus", T4 A12 (out) "Address bus", T17 TMS/PTL6 (io) "Test mode select/general-purpose port", T18 TCK/PTL3 (io) "Test clock/general-purpose port", T19 PINT7/PCC_RESET/PTK3 (io) "Port interrupt/PCC reset/general-purpose port", T20 ~{ASEBRKAK}/PTJ5 (io) "ASE break mode acknowledge/general-purpose port", U2 A9 (out) "Address bus", U3 A4 (out) "Address bus", U4 A10 (out) "Address bus", U5 D11 (io) "Data bus", U6 D8 (io) "Data bus", U7 D4 (io) "Data bus", U8 D1 (io) "Data bus", U11 ~{BACK} (out) "Bus request acknowledge", U12 ~{BS} (out) "Bus start", U13 A19/PTR1 (io) "Address bus/general-purpose port", U14 A22/PTR4 (io) "Address bus/general-purpose port", U15 A24/PTR6 (io) "Address bus/general-purpose port", U16 ~{DACK0}/PINT1/PTM4 (io) "DMA transfer request reception/port interrupt/general-purpose port", U17 ~{DREQ1}/PTM7 (io) "DMA transfer request/general-purpose port", U18 TDI/PTL4 (io) "Test data input/general-purpose port", U19 PINT6/PCC_RDY/PTK2 (io) "Port interrupt/PCC ready/general-purpose port", U20 TDO/PTL5 (io) "Test data output/general-purpose port", V2 A3 (out) "Address bus", V3 A7 (out) "Address bus", V4 D12 (io) "Data bus", V5 D14 (io) "Data bus", V6 D9 (io) "Data bus", V7 D6 (io) "Data bus", V8 D2 (io) "Data bus", V9 D0 (io) "Data bus", V10 ~{CS5B}/~{CE1A}/PTM1 (io) "Chip select/chip select/general-purpose port", V11 ~{BREQ} (in) "Bus request", V12 ~{WAIT}/~{PCC_WAIT} (in) "Wait/PCC wait", V13 A20/PTR2 (io) "Address bus/general-purpose port", V14 A23/PTR5 (io) "Address bus/general-purpose port", V15 ~{DREQ0}/PINT0/PTM6 (io) "DMA transfer request/port interrupt/general-purpose port", V16 EXTAL_RTC (in) "RTC external clock", V17 XTAL_RTC (out) "RTC crystal", V18 ~{RESETP} (in) "Power-on reset", V19 PINT5/~{PCC_VS2}/PTK1 (io) "Port interrupt/PCC voltage detection 2/general-purpose port", W1 A8 (out) "Address bus", W2 A2 (out) "Address bus", W3 A1 (out) "Address bus", W4 A0/PTR0 (io) "Address bus/general-purpose port", W5 D15 (io) "Data bus", W6 D10 (io) "Data bus", W7 D7 (io) "Data bus", W8 D3 (io) "Data bus", W9 ~{CS6B}/~{CE1B}/PTM0 (io) "Chip select/chip select/general-purpose port", W10 ~{CS5A}/~{CE2A} (out) "Chip select/chip select", W11 ~{CS4} (out) "Chip select", W12 A18 (out) "Address bus", W13 A21/PTR3 (io) "Address bus/general-purpose port", W14 A25/PTR7 (io) "Address bus/general-purpose port", W15 TEND0/PINT2/PTM2 (io) "DMA transfer end/port interrupt/general-purpose port", W17 TEND1/PINT3/PTM3 (io) "DMA transfer end/port interrupt/general-purpose port", W19 PINT4/~{PCC_VS1}/PTK0 (io) "Port interrupt/PCC voltage detection 1/general-purpose port", Y3 D13 (io) "Data bus", Y6 D5 (io) "Data bus", Y9 ~{CS6A}/~{CE2B} (out) "Chip select/chip select", Y12 ~{CS0} (out) "Chip select", Y13 ~{RD} (out) "Read strobe", Y18 ~{DACK1}/PTM5 (io) "DMA transfer request reception/general-purpose port", Y19 CA (in) "Chip active"
part B pins: A2 VCCQ (power) "I/O power supply (3.3V)", A6 VCCQ (power) "I/O power supply (3.3V)", A11 VCCQ (power) "I/O power supply (3.3V)", A14 VCCQ (power) "I/O power supply (3.3V)", A18 AVCC_USB (power) "USB power supply (3.3V)", B1 VCC_PLL2 (power) "PLL2 power supply (1.5V)", B19 AVCC_USB (power) "USB power supply (3.3V)", B20 VCCQ (power) "I/O power supply (3.3V)", C1 VCC_PLL1 (power) "PLL1 power supply (1.5V)", C17 AVCC (power) "Analog power supply (3.3V)", D12 VCC (power) "Internal power supply (1.5V)", E1 VCCQ1 (power) "I/O power supply (1.8/3.3V)", F20 VCCQ (power) "I/O power supply (3.3V)", G4 VCC (power) "Internal power supply (1.5V)", H1 VCCQ1 (power) "I/O power supply (1.8/3.3V)", H17 VCC (power) "Power-supply (1.5V)", K1 VCCQ1 (power) "I/O power supply (1.8/3.3V)", L20 VCCQ (power) "I/O power supply (3.3V)", N4 VCC (power) "Power-supply (1.5V)", P17 VCC (power) "Internal power supply (1.5V)", R1 VCCQ1 (power) "I/O power supply (1.8/3.3V)", R20 VCCQ (power) "I/O power supply (3.3V)", U9 VCC (power) "Internal power supply (1.5V)", V1 VCCQ1 (power) "I/O power supply (1.8/3.3V)", W16 VCCQ_RTC (power) "RTC power supply (3.3V)", W20 VCCQ (power) "I/O power supply (3.3V)", Y2 VCCQ1 (power) "I/O power supply (1.8/3.3V)", Y5 VCCQ1 (power) "I/O power supply (1.8/3.3V)", Y8 VCCQ1 (power) "I/O power supply (1.8/3.3V)", Y11 VCCQ1 (power) "I/O power supply (1.8/3.3V)", Y15 VCCQ1 (power) "I/O power supply (1.8/3.3V)", Y17 VCCQ1 (power) "I/O power supply (1.8/3.3V)", Y20 VCC_RTC (power) "RTC power supply (1.5V)"
part C pins: A1 VSSQ (power) "I/O power supply (0V)", A5 VSSQ (power) "I/O power supply (0V)", A10 VSSQ (power) "I/O power supply (0V)", A13 VSSQ (power) "I/O power supply (0V)", A16 AVSS (power) "Analog power supply (0V)", A19 AVSS_USB (power) "USB power supply (0V)", A20 VSSQ (power) "I/O power supply (0V)", D1 VSSQ1 (power) "I/O power supply (0V)", D11 VSS (power) "Internal power supply (0V)", E2 VSS_PLL2 (power) "PLL2 power supply (0V)", E3 VSS_PLL1 (power) "PLL1 power supply (0V)", E20 VSSQ (power) "I/O power supply (0V)", G1 VSSQ1 (power) "I/O power supply (0V)", G17 VSS (power) "Internal power supply (0V)", H4 VSS (power) "Power-supply (0V)", J1 VSSQ1 (power) "I/O power supply (0V)", K20 VSSQ (power) "I/O power supply (0V)", N17 VSS (power) "Power-supply (0V)", P1 VSSQ1 (power) "I/O power supply (0V)", P4 VSS (power) "Internal power supply (0V)", P20 VSSQ (power) "I/O power supply (0V)", U1 VSSQ1 (power) "I/O power supply (0V)", U10 VSS (power) "Internal power supply (0V)", V20 VSSQ (power) "I/O power supply (0V)", W18 VSS_RTC (power) "RTC power supply (0V)", Y1 VSSQ1 (power) "I/O power supply (0V)", Y4 VSSQ1 (power) "I/O power supply (0V)", Y7 VSSQ1 (power) "I/O power supply (0V)", Y10 VSSQ1 (power) "I/O power supply (0V)", Y14 VSSQ1 (power) "I/O power supply (0V)", Y16 VSSQ1 (power) "I/O power supply (0V)"

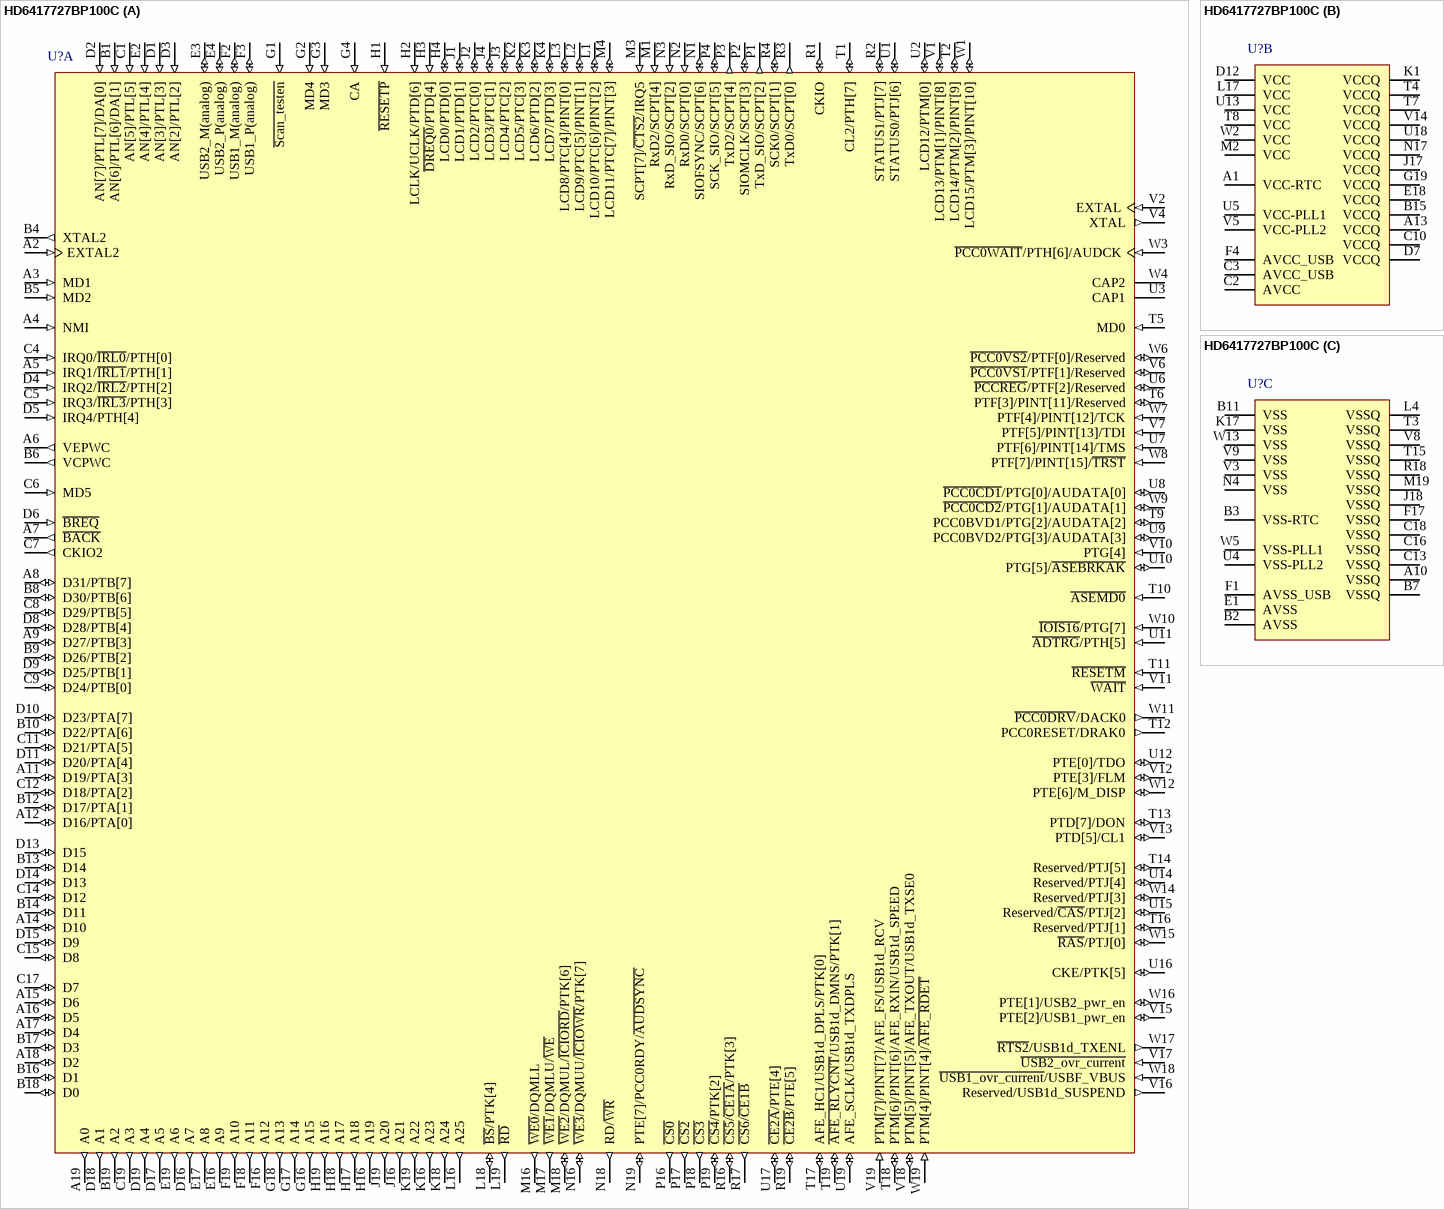
[diagram p53: symbol HD6417727BP100C]